# Altium schematic symbol library Relay.SchLib: 8 symbols
Pins are listed as number, name and electrical type; pins without a type are passive.

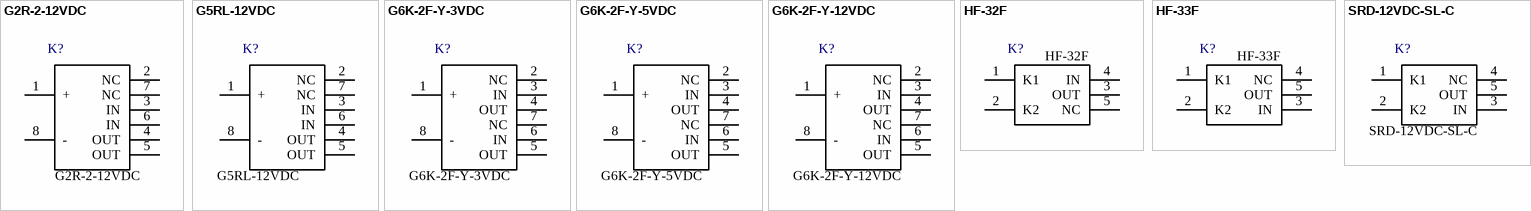
[diagram p0: symbols G2R-2-12VDC to SRD-12VDC-SL-C]

## G2R-2-12VDC
designator K?, comment Global part number: G2R-2-12VDC  (hidden comment: 12V)
Relay; Manufacture: OMRON; Max DCvoltage: 30V; Max ACvoltage: 250V; Max current: 16A; Value: 12V; Mount type: AI
footprint REL_OMRON_G2R
pins: 1 +, 2 NC, 3 IN, 4 OUT, 5 OUT, 6 IN, 7 NC, 8 -

## G5RL-12VDC
designator K?, comment Global part number: G5RL-12VDC  (hidden comment: 12V)
Relay; Manufacture: OMRON; Max DCvoltage: 30V; Max ACvoltage: 250V; Max current: 16A; Value: 12V; Mount type: AI
footprint REL_OMRON_G2R
pins: 1 +, 2 NC, 3 IN, 4 OUT, 5 OUT, 6 IN, 7 NC, 8 -

## G6K-2F-Y-3VDC
designator K?, comment Global part number: G6K-2F-Y-3VDC  (hidden comment: 3V)
Relay; Manufacture: OMRON; Max DCvoltage: 30V; Max ACvoltage: 250V; Max current: 1A; Value: 3V; Mount type: SMT
footprint REL_OMRON_G6K-2F
pins: 1 +, 2 NC, 3 IN, 4 OUT, 5 OUT, 6 IN, 7 NC, 8 -

## G6K-2F-Y-5VDC
designator K?, comment Global part number: G6K-2F-Y-5VDC  (hidden comment: 5V)
Relay; Manufacture: OMRON; Max DCvoltage: 30V; Max ACvoltage: 250V; Max current: 1A; Value: 5V; Mount type: SMT
footprint REL_OMRON_G6K-2F
pins: 1 +, 2 NC, 3 IN, 4 OUT, 5 OUT, 6 IN, 7 NC, 8 -

## G6K-2F-Y-12VDC
designator K?, comment Global part number: G6K-2F-Y-12VDC  (hidden comment: 12V)
Relay; Manufacture: OMRON; Max DCvoltage: 30V; Max ACvoltage: 250V; Max current: 1A; Value: 12V; Mount type: SMT
footprint REL_OMRON_G6K-2F
pins: 1 +, 2 NC, 3 IN, 4 OUT, 5 OUT, 6 IN, 7 NC, 8 -

## HF-32F
designator K?, comment Global part number: HF-32F  (hidden comment: 12V)
Relay; Manufacture: HF; Max ACvoltage: 250V; Max DCvoltage: 30V; Max current: 5A; Value: 12V; Mount type: AI
footprint HF-32F
pins: 1 K1, 2 K2, 3 OUT, 4 IN, 5 NC

## HF-33F
designator K?, comment Global part number: HF-33F  (hidden comment: 12V)
Relay; Manufacture: HF; Max DCvoltage: 30V; Max ACvoltage: 250V; Max current: 10A; Value: 12V; Mount type: AI
footprint HF-33F-4
footprint HF-33F-5
pins: 1 K1, 2 K2, 3 IN, 4 NC, 5 OUT

## SRD-12VDC-SL-C
designator K?, comment Global part number: SRD-12VDC-SL-C  (hidden comment: 12V)
Relay; Manufacture: SL; Max DCvoltage: 30V; Max ACvoltage: 250V; Max current: 10A; Value: 12V; Mount type: AI
footprint SRD
pins: 1 K1, 2 K2, 3 IN, 4 NC, 5 OUT